# EAGLE library part NTE (library cTechnologies_integratedCircuits)
Murata Power Solutions NTE Series Isolated 1W Single Output SM DC/DC Converters Datasheet: http://www.murata-ps.com/data/power/ncl/kdc_nte.pdf FEATURES - RoHS compliant - Lead frame technology - Single isolated output - 1kVDC Isolation - Ef? ciency up to 78% - Power density 1.8W/cm3 - Wide temperature performance at full - 1 Watt load, ?40°C to 85°C - UL 94V-0 Package material - Footprint over pins 1.37cm2 - 3.3V, 5V & 12V Input - 3.3V, 5V, 9V, 12V & 15V output - No heatsink required - Internal SMD construction - Toroidal magnetics - MTTF up to 6.8 million hours - Custom solutions available - Multi-layer ceramic capacitors
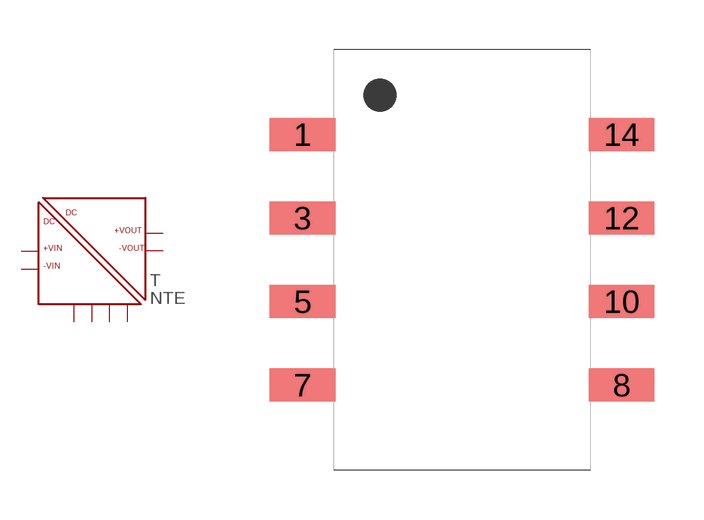
[diagram p12: symbol with the pads of NTE_POWER; footprint NTE_POWER]

Designator prefix T

## NTE0303MC  [NTE_POWER]
1  -VIN  in
3  +VIN  in
5  NA5  nc
7  -VOUT  in
8  +VOUT  in
10  NA10  nc
12  NA12  nc
14  NA14  nc

## Footprint NTE_POWER (pad centres in mm)
smd 2 x 1: 1 -4.85,3.81; 3 -4.85,1.27; 5 -4.85,-1.27; 7 -4.85,-3.81; 8 4.85,-3.81; 10 4.85,-1.27; 12 4.85,1.27; 14 4.85,3.81